# Altium schematic symbol library Transistor.SchLib: 3 symbols
Pins are listed as number, name and electrical type; pins without a type are passive.

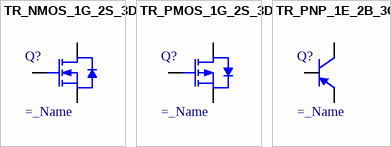
[diagram p0: symbols TR_NMOS_1G_2S_3D to TR_PNP_1E_2B_3C]

## TR_NMOS_1G_2S_3D
designator Q?  (value not drawn)
=description; Value: =_Name
pins: 1 G "gate", 2 S "source", 3 D "drain"

## TR_PMOS_1G_2S_3D
designator Q?  (value not drawn)
=description; Value: =_Name
pins: 1 G, 2 S, 3 D

## TR_PNP_1E_2B_3C
designator Q?  (value not drawn)
=description; Value: =_Name
pins: 1 E, 2 B, 3 C